# Altium footprint library PcbLib1.PcbLib: 2 footprints
Each footprint in its own frame and in the unit in brackets; x right, y up, seen from the top. Pads: shape width x height; smd on the part's side, far side on the other; paste and mask are expansions set on the pad; w line width, h text height; cw(c..) or ccw(c..) is an arc to the next point about the centre after c.
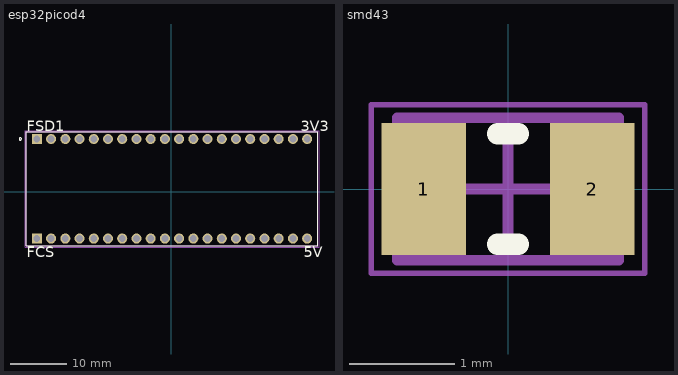
[diagram p0: the footprints below, top view; thin cyan lines are the x and y axes]

## esp32picod4 [mm]
pads (40):
  rect 1.8x1.8 hole 1.2: J2_1(-24.003,9.398) J3_1(-24.003,-8.382)
  round 1.8 hole 1.2: J2_2(-21.463,9.398) J2_3(-18.923,9.398) J2_4(-16.383,9.398) J2_5(-13.843,9.398) J2_6(-11.303,9.398) J2_7(-8.763,9.398) J2_8(-6.223,9.398) J2_9(-3.683,9.398) J2_10(-1.143,9.398) J2_11(1.397,9.398) J2_12(3.937,9.398) J2_13(6.477,9.398) J2_14(9.017,9.398) J2_15(11.557,9.398) J2_16(14.097,9.398) J2_17(16.637,9.398) J2_18(19.177,9.398) J2_19(21.717,9.398) J2_20(24.257,9.398) J3_2(-21.463,-8.382) J3_3(-18.923,-8.382) J3_4(-16.383,-8.382) J3_5(-13.843,-8.382) J3_6(-11.303,-8.382) J3_7(-8.763,-8.382) J3_8(-6.223,-8.382) J3_9(-3.683,-8.382) J3_10(-1.143,-8.382) J3_11(1.397,-8.382) J3_12(3.937,-8.382) J3_13(6.477,-8.382) J3_14(9.017,-8.382) J3_15(11.557,-8.382) J3_16(14.097,-8.382) J3_17(16.637,-8.382) J3_18(19.177,-8.382) J3_19(21.717,-8.382) J3_20(24.257,-8.382)
Top Overlay:
  circle w0.2: c-26.973,9.408 r0.224
  lines w0.127: -25.873,-9.642 -25.873,10.658 26.127,10.658 26.127,-9.642 -25.873,-9.642
  text "3V3" at 23.127,10.764 h1.88
  text "FSD1" at -25.795,10.763 h1.88
  text "5V" at 23.633,-11.686 h1.88
  text "FCS" at -25.813,-11.695 h1.88
Mechanical 4:
  lines w0.127: -25.873,-9.642 -25.873,10.658 ; -25.873,-9.642 26.127,-9.642 ; -25.873,-9.642 -25.873,10.658 ; -25.873,-9.642 26.127,-9.642 ; -25.873,10.658 26.127,10.658 ; -25.873,10.658 26.127,10.658 ; 26.127,-9.642 26.127,10.658 ; 26.127,-9.642 26.127,10.658
Mechanical 16:
  lines w0.05: -26.123,-9.892 -26.123,10.908 26.377,10.908 26.377,-9.892 -26.123,-9.892

## smd43 [mm]
pads (2):
  rect 0.8x1.25 smd: 1(-0.8,0) 2(0.8,0)
Top Overlay:
  lines w0.2: -0.1,-0.525 0.1,-0.525 ; -0.1,0.525 0.1,0.525
Mechanical 13:
  lines w0.1: -1.05,-0.675 1.05,-0.675 1.05,0.675 -1.05,0.675 -1.05,-0.675
Mechanical 15:
  lines w0.05: -1.3,-0.8 1.3,-0.8 1.3,0.8 -1.3,0.8 -1.3,-0.8
  lines w0.1: -0.5,0 0.5,0 ; 0,-0.5 0,0.5
3D body: height 0.6, standoff 0, extent 0.7,-0.675 1.05,0.675
3D body: height 0.6, standoff 0, extent -1.05,-0.675 -0.7,0.675
3D body: height 0.6, standoff 0, extent -0.7,-0.675 0.7,0.675